# EAGLE library part NJM4558 (library NJM4558S)
OP AMP
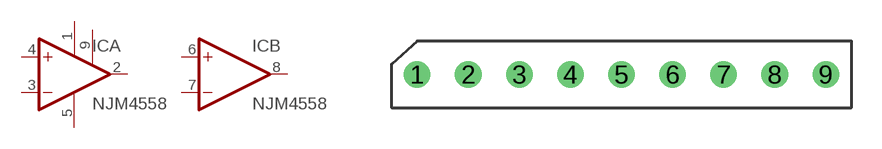
[diagram p0: symbol with the pads of S8; footprint S8]

Designator prefix IC; gates A=OPAMP B=OPAMP P=PWR+-

## NJM4558S  [S8]
1  P:V+  pwr
2  A:OUT  out
3  A:-IN  in
4  A:+IN  in
5  P:V-  pwr
6  B:+IN  in
7  B:-IN  in
8  B:OUT  out
9  P:V+1  pwr

## Footprint S8 (pad centres in mm)
Dual In Line Package
drill 0.813 pad 1.27: 1 -8.89,0; 2 -6.35,0; 3 -3.81,0; 4 -1.27,0; 5 1.27,0; 6 3.81,0; 7 6.35,0; 8 8.89,0; 9 11.43,0